# EAGLE library part TPS6217*-Q1 (library bschulz)
TPS6217*-Q1 - Step Down Converter (Buck) Characteristics: Vin: 3V ~ 17V Vout: 0.9V ~ 6V (or 1.8, 3.3V fixed) Output Current: 500 mA Operating Temperature: -40°C to 125°C Digikey: TPS62172 (3.3V Fixed) <https://www.digikey.com/product-detail/en/texas-instruments/TPS62172QDSGRQ1/296-40841-1-ND/51787187> TPS62171 (1.8V Fixed) <https://www.digikey.com/product-detail/en/texas-instruments/TPS62171QDSGRQ1/296-45329-1-ND/6609870> TPS62170 (Adjustable) <https://www.digikey.com/product-detail/en/texas-instruments/TPS62170DSGR/296-29865-1-ND/2780971>
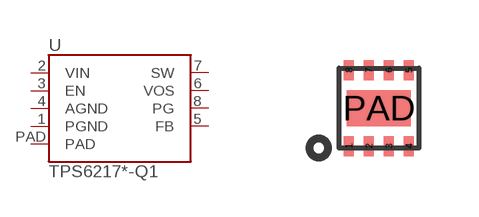
[diagram p26: symbol with the pads of WSON-8-PAD; footprint WSON-8-PAD]

Designator prefix U

## TPS62170-Q1 (DIGIKEY: 296-29865-1-ND; MF: TI; MPN: TPS62170DSGR), TPS62171-Q1 (DIGIKEY: 296-45329-1-ND; MF: TI; MPN: TPS62171QDSGRQ1), TPS62172-Q1 (DIGIKEY: 296-40841-1-ND; MF: TI; MPN: TPS62172QDSGRQ1)  [WSON-8-PAD]
1  PGND
2  VIN
3  EN
4  AGND
5  FB
6  VOS
7  SW
8  PG
PAD  PAD

## Footprint WSON-8-PAD (pad centres in mm)
smd 0.25 x 0.5: 1 -0.75,-0.95; 2 -0.25,-0.95; 3 0.25,-0.95; 4 0.75,-0.95; 5 0.75,0.95; 6 0.25,0.95; 7 -0.25,0.95; 8 -0.75,0.95
smd 1.6 x 0.9: PAD 0,0